# Altium schematic symbol library Header IDC 4.SchLib: 1 symbol
Pins are listed as number, name and electrical type; pins without a type are passive.

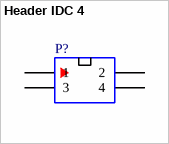
[diagram p0: symbol Header IDC 4]

## Header IDC 4
designator P?
Boxed/shrouded header, 2×2, 4-Pin (IDC)
pins: 1, 2, 3, 4